# EAGLE library part 1-776267-1 (library 1-776267-1)
AMP - TE CONNECTIVITY - 1-776267-1 - CONNECTOR, HEADER, THT, R/A, 4MM, 14WAY Source: Datasheet <https://www.te.com/commerce/DocumentDelivery/DDEController?Action=showdoc&DocId=Customer Drawing776267B7pdfEnglishENG_CD_776267_B7.pdf1-776267-1>
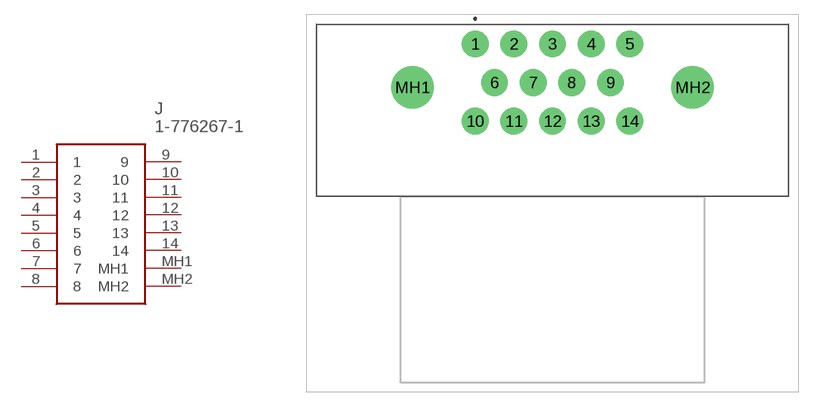
[diagram p0: symbol with the pads of 17762671; footprint 17762671]

Designator prefix J

## 1-776267-1 (Description: AMP - TE CONNECTIVITY - 1-776267-1 - CONNECTOR, HEADER, THT, R/A, 4MM, 14WAY; Height: 32.3mm; Manufacturer_Name: TE Connectivity; Manufacturer_Part_Number: 1-776267-1; Mouser_Part_Number: 571-1-776267-1; Mouser_Price-Stock: https://www.mouser.co.uk/ProductDetail/TE-Connectivity-AMP/1-776267-1?qs=tLAa1RwIH6fkHL6Gg3bgqw%3D%3D)  [17762671]
1  1
2  2
3  3
4  4
5  5
6  6
7  7
8  8
9  9
10  10
11  11
12  12
13  13
14  14
MH1  MH1
MH2  MH2

## Footprint 17762671 (pad centres in mm)
1-776267-1-2
drill 1.85 pad 2.775: 1 0,0; 2 4,0; 3 8,0; 4 12,0; 5 16,0; 6 2,-4; 7 6,-4; 8 10,-4; 9 14,-4; 10 0,-8; 11 4,-8; 12 8,-8; 13 12,-8; 14 16,-8
drill 2.93 pad 4.395: MH1 -6.5,-4.5; MH2 22.5,-4.5